# EAGLE library part 00SPEEDY_ER28/14/11_THT_H_12PIN (library Wurth Electronics Midcom Inc V1-0)
Package Style: Speedy ER28/14/11 Mounting: THT Pins: 12 pins Bobbin: 070-4869 Best pinouts for production vary per application. Please contact Wurth Electronics Midcom, Inc. for assistance with your custom design. Website: Wurth Electronics Midcom <http://www.we-online.com/midcom> Contact us Wurth Electronics Midcom, Inc. 121 Airport Dr. Watertown, SD 57201 Phone: (605) 886-4385 Fax: (605) 886-4486 E-Mail: midcom@we-online.com
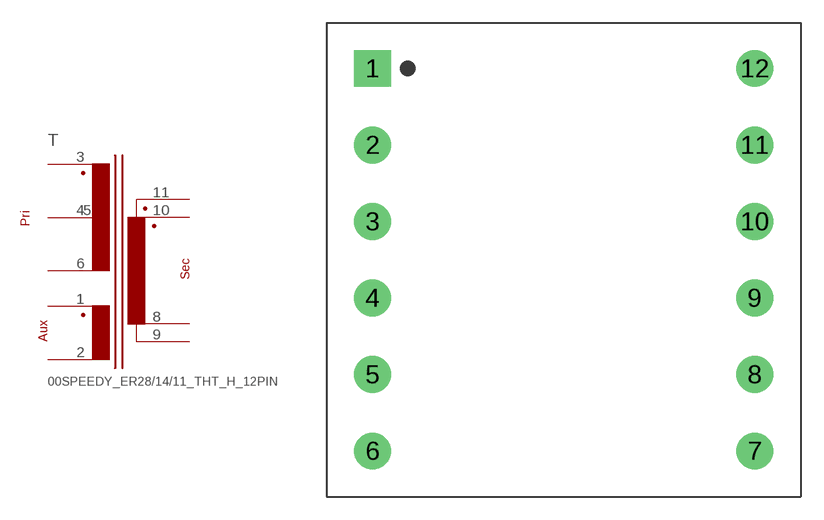
[diagram p128: symbol with the pads of 00SPEEDY_ER28/14/11_THT_H_12PIN; footprint 00SPEEDY_ER28/14/11_THT_H_12PIN]

Designator prefix T

## 00SPEEDY_ER28/14/11_THT_H_12PIN  [00SPEEDY_ER28/14/11_THT_H_12PIN]
1  5  pas
2  6  pas
3  1  pas
4  2  pas
5  3  pas
6  4  pas
8  10  pas
9  8  pas
10  9  pas
11  7  pas

## Footprint 00SPEEDY_ER28/14/11_THT_H_12PIN (pad centres in mm)
Package Style: Speedy ER28/14/11 Mounting: THT Pins: 12 pins Bobbin: 070-4869
drill 1.6 square: 1 -12.497,12.509
drill 1.6 round: 2 -12.497,7.506; 3 -12.497,2.502; 4 -12.497,-2.502; 5 -12.497,-7.506; 6 -12.497,-12.509; 7 12.497,-12.509; 8 12.497,-7.506; 9 12.497,-2.502; 10 12.497,2.502; 11 12.497,7.506; 12 12.497,12.509